# Altium schematic symbol library Schlib1.SchLib: 1 symbol
Pins are listed as number, name and electrical type; pins without a type are passive.

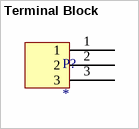
[diagram p0: symbol Terminal Block]

## Terminal Block
designator P?
KF141-2.54-3-R
footprint PCBComponent_1
pins: 1, 2, 3